# Altium schematic symbol library STM8.SchLib: 3 symbols
Pins are listed as number, name and electrical type; pins without a type are passive.

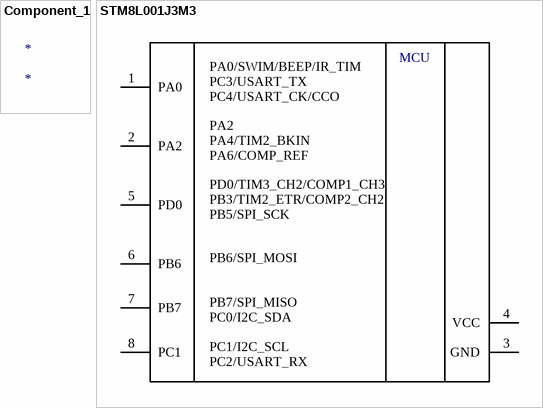
[diagram p0: symbols Component_1 to STM8L001J3M3]

## Component_1
designator *

## STM8L001J3M3
designator DA?  (value not drawn)
ManufacturerPartNumber: STM8L001J3M3; Manufacturer: STMicroelectronics; Rem: *; Package: SOP-8; Value: *; Tolerance: *; Power/Voltage: *; TKE: *; Quantity: *; Примечание: *
footprint SO-8
pins: 1 PA0, 2 PA2, 3 GND, 4 VCC, 5 PD0, 6 PB6, 7 PB7, 8 PC1
text: MCU; PA0/SWIM/BEEP/IR_TIM / PC3/USART_TX / PC4/USART_CK/CCO; PA2 / PA4/TIM2_BKIN / PA6/COMP_REF; PD0/TIM3_CH2/COMP1_CH3 / PB3/TIM2_ETR/COMP2_CH2 / PB5/SPI_SCK; PB6/SPI_MOSI; PB7/SPI_MISO / PC0/I2C_SDA; PC1/I2C_SCL / PC2/USART_RX

## РЫБА
designator R?  (value not drawn)
Rem: *; Package: *; Value: *; Tolerance: *; Power/Voltage: *; TKE: *; ManufacturerPartNumber: *; Manufacturer: *; Quantity: *; Примечание: *